# Altium footprint library BLE.PcbLib: 57 footprints (part 1 of 4)
Each footprint in its own frame and in the unit in brackets; x right, y up, seen from the top. Pads: shape width x height; smd on the part's side, far side on the other; paste and mask are expansions set on the pad; w line width, h text height; cw(c..) or ccw(c..) is an arc to the next point about the centre after c.
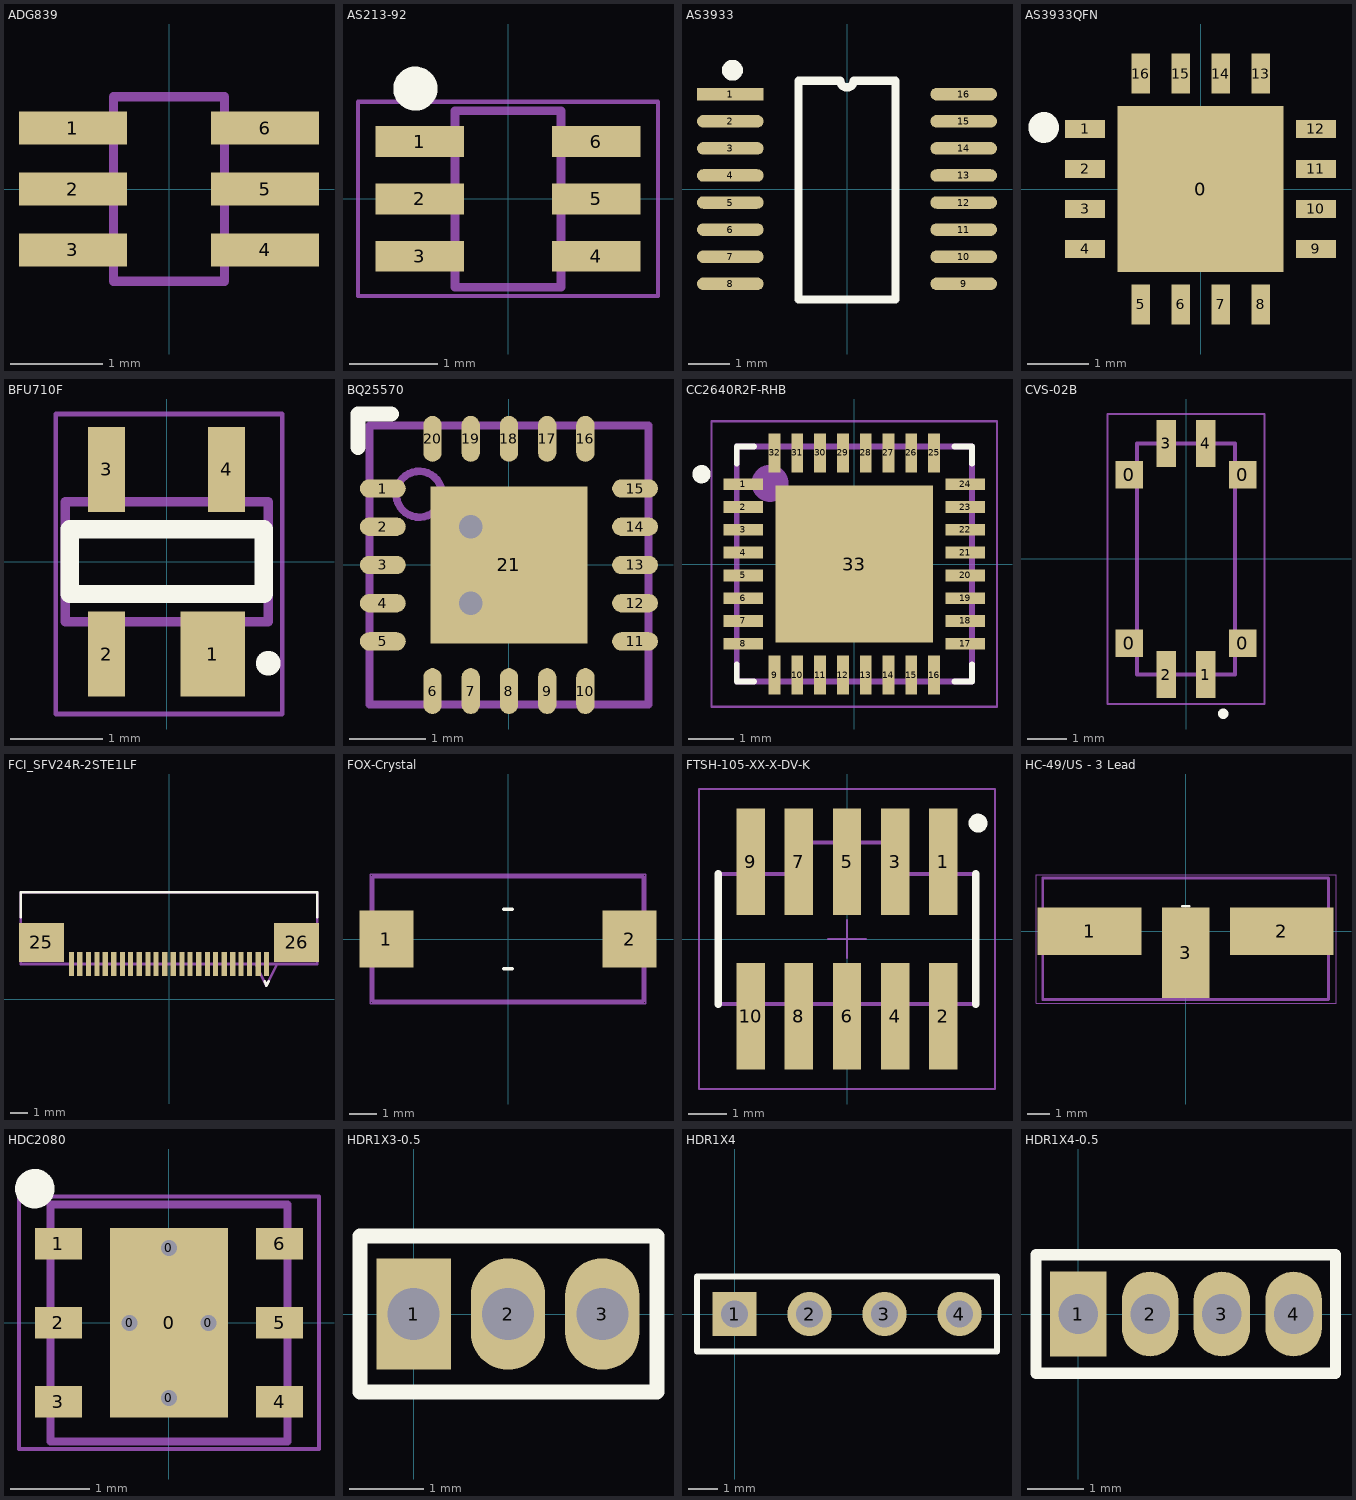
[diagram p0: the footprints below, top view; thin cyan lines are the x and y axes]

## ADG839 [mil]
pads (6):
  rect 46x14 smd: 1(-41,26) 2(-41,0) 3(-41,-26) 4(41,-26) 5(41,0) 6(41,26)
Mechanical 13:
  lines w3.94: -23.62,-39.37 -23.62,39.37 23.62,39.37 23.62,-39.37 -23.62,-39.37
3D body: height 43.31, standoff 0, extent -24.61,-39.37 25,39.37

## AS213-92 [mm]
pads (6):
  rect 1x0.35 smd: 1(-1,0.65) 2(-1,0) 3(-1,-0.65) 4(1,-0.65) 5(1,0) 6(1,0.65)
Top Overlay:
  circle w0.25: c-1.05,1.25 r0.125
Mechanical 13:
  lines w0.1: -0.6,-1 0.6,-1 0.6,1 -0.6,1 -0.6,-1
Mechanical 15:
  lines w0.05: -1.7,-1.1 1.7,-1.1 1.7,1.1 -1.7,1.1 -1.7,-1.1
3D body: height 1.1, standoff 0, extent -0.6,-1 0.6,1

## AS3933 [mm]
pads (16):
  rect 1.6x0.3 smd: 1(-2.8,2.275)
  oval 1.6x0.3 smd: 2(-2.8,1.625) 3(-2.8,0.975) 4(-2.8,0.325) 5(-2.8,-0.325) 6(-2.8,-0.975) 7(-2.8,-1.625) 8(-2.8,-2.275) 9(2.8,-2.275) 10(2.8,-1.625) 11(2.8,-0.975) 12(2.8,-0.325) 13(2.8,0.325) 14(2.8,0.975) 15(2.8,1.625) 16(2.8,2.275)
Top Overlay:
  circle w0.25: c-2.75,2.85 r0.125
  lines w0.2: -1.165,-2.65 -1.165,2.6 -0.162,2.6 ccw(c0,2.6) 0.162,2.6 1.165,2.6 1.165,-2.65 -1.165,-2.65
3D body: height 1.1, standoff 0, extent -2.2,-2.65 2.2,2.65

## AS3933QFN [mm]
pads (17):
  rect 2.7x2.7 smd: 0(0,0)
  rect 0.65x0.3 smd: 1(-1.875,0.975) 2(-1.875,0.325) 3(-1.875,-0.325) 4(-1.875,-0.975) 9(1.875,-0.975) 10(1.875,-0.325) 11(1.875,0.325) 12(1.875,0.975)
  rect 0.3x0.65 smd: 5(-0.975,-1.875) 6(-0.325,-1.875) 7(0.325,-1.875) 8(0.975,-1.875) 13(0.975,1.875) 14(0.325,1.875) 15(-0.325,1.875) 16(-0.975,1.875)
Top Overlay:
  circle w0.25: c-2.55,1 r0.125
3D body: height 1.1, standoff 0, extent -2,-2 2,2

## BFU710F [mm] "SOT343R - Package for BF1101WR"
height 1.1
pads (4):
  rect 0.7x0.92 smd: 1(0.5,-1)
  rect 0.4x0.92 smd: 2(-0.65,-1) 3(-0.65,1) 4(0.65,1)
Top Overlay:
  circle w0.254: c1.1,-1.1 r0.008
  lines w0.2: -1.05,-0.35 1.05,-0.35 1.05,0.35 -1.05,0.35 -1.05,-0.35
Mechanical 13:
  lines w0.1: -1.1,-0.65 1.1,-0.65 1.1,0.65 -1.1,0.65 -1.1,-0.65
Mechanical 15:
  lines w0.05: -1.2,-1.65 1.25,-1.65 1.25,1.6 -1.2,1.6 -1.2,-1.65
3D body: height 1.1, standoff 0, extent -1.1,-0.65 1.1,0.65

## BQ25570 [mm] "Boost Charger"
height 0.87
pads (21):
  oval 0.6x0.24 smd paste-0.025 mask+0.07: 1(-1.65,1) 2(-1.65,0.5) 3(-1.65,0) 4(-1.65,-0.5) 5(-1.65,-1) 11(1.65,-1) 12(1.65,-0.5) 13(1.65,0) 14(1.65,0.5) 15(1.65,1)
  oval 0.24x0.6 smd paste-0.025 mask+0.07: 6(-1,-1.65) 7(-0.5,-1.65) 8(0,-1.65) 9(0.5,-1.65) 10(1,-1.65) 16(1,1.65) 17(0.5,1.65) 18(0,1.65) 19(-0.5,1.65) 20(-1,1.65)
  rect 2.05x2.05 smd paste-1.025 mask+0.07: 21(0,0)
via -0.5,0.5 diameter 0.635 hole 0.305
via -0.5,-0.5 diameter 0.635 hole 0.305
Top Overlay:
  lines w0.2: -1.975,1.54 -1.975,1.975 -1.54,1.975
Top Paste:
  rectangle: -0.97,-0.97 -0.15,-0.15
  region: 0.97,-0.15 0.15,-0.15 0.15,-0.97 0.97,-0.97
  region: 0.97,0.97 0.15,0.97 0.15,0.15 0.97,0.15
  rectangle: -0.97,0.15 -0.15,0.97
Mechanical 13:
  circle w0.1: c-1.175,0.925 r0.3
  lines w0.1: -1.825,-1.825 -1.825,1.825 1.825,1.825 1.825,-1.825 -1.825,-1.825
3D body: height 1.01, standoff 0.5, extent -1.474,0.626 -0.876,1.224
3D body: height 1, standoff 0, extent -1.825,-1.825 1.825,1.825

## CC2640R2F-RHB [mm]
pads (33):
  rect 0.86x0.26 smd: 1(-2.435,1.75) 2(-2.435,1.25) 3(-2.435,0.75) 4(-2.435,0.25) 5(-2.435,-0.25) 6(-2.435,-0.75) 7(-2.435,-1.25) 8(-2.435,-1.75) 17(2.435,-1.75) 18(2.435,-1.25) 19(2.435,-0.75) 20(2.435,-0.25) 21(2.435,0.25) 22(2.435,0.75) 23(2.435,1.25) 24(2.435,1.75)
  rect 0.26x0.86 smd: 9(-1.75,-2.435) 10(-1.25,-2.435) 11(-0.75,-2.435) 12(-0.25,-2.435) 13(0.25,-2.435) 14(0.75,-2.435) 15(1.25,-2.435) 16(1.75,-2.435) 25(1.75,2.435) 26(1.25,2.435) 27(0.75,2.435) 28(0.25,2.435) 29(-0.25,2.435) 30(-0.75,2.435) 31(-1.25,2.435) 32(-1.75,2.435)
  rect 3.45x3.45 smd: 33(0,0)
Top Overlay:
  circle w0.2: c-3.35,1.97 r0.1
  lines w0.127: -2.58,-2.2 -2.58,-2.58 -2.2,-2.58 ; -2.58,2.2 -2.58,2.58 -2.2,2.58 ; 2.2,-2.58 2.58,-2.58 2.58,-2.2 ; 2.2,2.58 2.58,2.58 2.58,2.2
Top Paste:
  region: -1.105,1.1 1.1,1.1 1.1,-1.105 -1.105,-1.105
Mechanical 4:
  circle w0.61: c-1.85,1.77 r0.1
  circle w0.61: c-1.85,1.77 r0.1
  lines w0.127: -2.58,-2.58 -2.58,2.58 ; -2.58,-2.58 2.58,-2.58 ; -2.58,-2.58 -2.58,2.58 ; -2.58,-2.58 2.58,-2.58 ; -2.58,2.58 2.58,2.58 ; -2.58,2.58 2.58,2.58 ; 2.58,-2.58 2.58,2.58 ; 2.58,-2.58 2.58,2.58
Mechanical 16:
  lines w0.05: -3.13,-3.13 -3.13,3.13 3.13,3.13 3.13,-3.13 -3.13,-3.13

## CVS-02B [mm] "SOT343R - Package for BF1101WR"
height 1.1
pads (8):
  rect 0.7x0.7 smd: 0(-1.45,-2.15) 0(-1.45,2.15) 0(1.45,-2.15) 0(1.45,2.15)
  rect 0.5x1.2 smd: 1(0.5,-2.95) 2(-0.5,-2.95) 3(-0.5,2.95) 4(0.5,2.95)
Top Overlay:
  circle w0.254: c0.95,-3.95 r0.008
Mechanical 13:
  lines w0.1: -1.25,-2.95 1.25,-2.95 1.25,2.95 -1.25,2.95 -1.25,-2.95
Mechanical 15:
  lines w0.05: -2,-3.7 2,-3.7 2,3.7 -2,3.7 -2,-3.7
3D body: height 1.1, standoff 0, extent -1.25,-2.95 1.25,2.95

## FCI_SFV24R-2STE1LF [mil]
height 98.43
pads (26):
  rect 12x55 smd: 1(-226,82) 2(-207,82) 3(-187,82) 4(-167,82) 5(-148,82) 6(-128,82) 7(-108,82) 8(-89,82) 9(-69,82) 10(-49,82) 11(-30,82) 12(-10,82) 13(10,82) 14(30,82) 15(49,82) 16(69,82) 17(89,82) 18(108,82) 19(128,82) 20(148,82) 21(167,82) 22(187,82) 23(207,82) 24(226,82)
  rect 104x91 smd: 25(-296,132) 26(296,132)
Top Overlay:
  lines w6: -344,190 -344,248 344,248 344,190 ; 222,42 226,32 231,42
Mechanical 13:
  lines w6: -344,82 344,82 ; -344,82 -344,248 ; -344,82 344,82 ; -344,82 -344,248 ; -344,248 344,248 ; -344,248 344,248 ; 226,32 251,82 226,32 ; 226,32 201,82 226,32 ; 344,82 344,248 ; 344,82 344,248

## FOX-Crystal [mm]
height 2.5
pads (2):
  rect 2x2.1 smd: 1(-4.5,0) 2(4.5,0)
Top Overlay:
  lines w0.127: -0.15,-1.1 0.15,-1.1 ; -0.15,1.1 0.15,1.1
Mechanical 13:
  lines w0.127: -5,-2.3 5,-2.3 5,2.3 -5,2.3 -5,-2.3
Mechanical 15:
  lines w0.05: -5.1,-2.4 -5.1,2.4 5.1,2.4 5.1,-2.4 -5.1,-2.4
3D body: height 1.1, standoff 0, extent -5,-2.3 5,2.3

## FTSH-105-XX-X-DV-K [mm] "1.27mm pitch, 10 pin, terminal strip; keyed"
height 5.97
pads (10):
  rect 0.75x2.8 smd: 1(2.54,2.03) 2(2.54,-2.03) 3(1.27,2.03) 4(1.27,-2.03) 5(0,2.03) 6(0,-2.03) 7(-1.27,2.03) 8(-1.27,-2.03) 9(-2.54,2.03) 10(-2.54,-2.03)
Top Overlay:
  circle w0.25: c3.45,3.05 r0.125
  lines w0.2: -3.391,-1.715 -3.391,1.715 ; 3.391,-1.715 3.391,1.715
Mechanical 13:
  lines w0.1: -3.391,-1.708 -3.384,-1.715 ; 3.384,1.715 1.08,1.715 1.08,2.54 -1.08,2.54 -1.08,1.715 -3.391,1.715 -3.391,-1.715 3.391,-1.715 3.391,1.708
Mechanical 15:
  lines w0.05: -0.5,0 0.5,0 ; 0,-0.5 0,0.5 ; -3.9,-3.95 -3.9,3.95 3.9,3.95 3.9,-3.95 -3.9,-3.95

## HC-49/US - 3 Lead [mm]
height 2.5
pads (3):
  rect 4.6x2.1 smd: 1(-4.25,0) 2(4.25,0)
  rect 2.1x4 smd: 3(0,-0.95)
Top Overlay:
  lines w0.127: -0.15,-1.1 0.15,-1.1 ; -0.15,1.1 0.15,1.1
Mechanical 13:
  lines w0.127: -6.325,-3.025 -6.325,2.35 6.325,2.35 6.325,-3.025 -6.325,-3.025
Mechanical 15:
  lines w0.05: -6.625,-3.2 6.65,-3.2 6.65,2.5 -6.625,2.5 -6.625,-3.2
3D body "ABLSG.STEP": height 4.06, standoff -0.1, extent -6.35,-3 6.35,2.35

## HDC2080 [mm]
pads (11):
  round 0.2 hole 0.2: 0(-0.5,0) 0(0,-0.95) 0(0,0.95) 0(0.5,0)
  rect 1.5x2.4 smd mask+0.07: 0(0,0)
  rect 0.6x0.4 smd mask+0.07: 1(-1.4,1) 2(-1.4,0) 3(-1.4,-1) 4(1.4,-1) 5(1.4,0) 6(1.4,1)
Top Overlay:
  circle w0.25: c-1.7,1.7 r0.125
Mechanical 13:
  lines w0.1: -1.5,-1.5 1.5,-1.5 1.5,1.5 -1.5,1.5 -1.5,-1.5
Mechanical 15:
  lines w0.05: -1.9,-1.6 1.9,-1.6 1.9,1.6 -1.9,1.6 -1.9,-1.6
3D body: height 1.1, standoff 0, extent -1.5,-1.5 1.5,1.5

## HDR1X3-0.5 [mm] "Connector; Header; 4 Position"
pads (3):
  rect 1x1.5 hole 0.7: 1(0,0)
  oval 1x1.5 hole 0.7: 2(1.27,0) 3(2.54,0)
Top Overlay:
  lines w0.2: -0.725,-1.05 -0.725,1.05 3.275,1.05 3.275,-1.05 -0.725,-1.05

## HDR1X4 [mm] "Connector; Header; 4 Position"
pads (4):
  rect 1.5x1.5 hole 0.9: 1(0,0)
  round 1.5 hole 0.9: 2(2.54,0) 3(5.08,0) 4(7.62,0)
Top Overlay:
  lines w0.2: -1.27,-1.27 8.89,-1.27 8.89,1.27 -1.27,1.27 -1.27,-1.27

## HDR1X4-0.5 [mm] "Connector; Header; 4 Position"
pads (4):
  rect 1x1.5 hole 0.7: 1(0,0)
  oval 1x1.5 hole 0.7: 2(1.27,0) 3(2.54,0) 4(3.81,0)
Top Overlay:
  lines w0.2: -0.75,-1.05 4.55,-1.05 4.55,1.05 -0.75,1.05 -0.75,-1.05